# Altium schematic symbol library NXPSemi.SchLib: 6 symbols
Pins are listed as number, name and electrical type; pins without a type are passive.

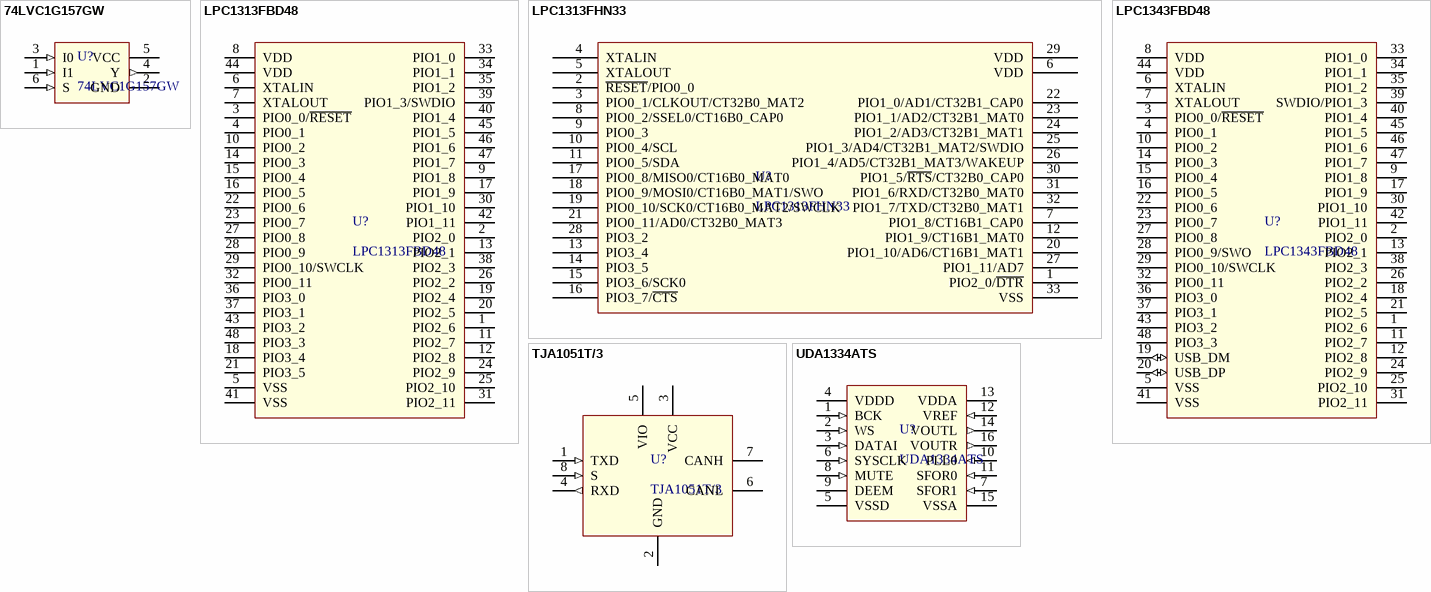
[diagram p0: symbols 74LVC1G157GW to UDA1334ATS]

## 74LVC1G157GW
designator U?
footprint SOT363-6N (SOT363, 6-Leads, Body 2x1.3mm, Pitch 0.65mm, Lead Span 2.1mm, IPC Medium Density)
pins: 1 I1 (in), 2 GND (power), 3 I0 (in), 4 Y (out), 5 VCC (power), 6 S (in)

## LPC1313FBD48
designator U?
footprint SQFP50P900X900-48N (Shrink QFP, 48-Leads, Body 7x7mm, Pitch 0.5mm, IPC Medium Density)
pins: 1 PIO2_6, 2 PIO2_0, 3 PIO0_0/~{RESET}, 4 PIO0_1, 5 VSS, 6 XTALIN, 7 XTALOUT, 8 VDD, 9 PIO1_8, 10 PIO0_2, 11 PIO2_7, 12 PIO2_8, 13 PIO2_1, 14 PIO0_3, 15 PIO0_4, 16 PIO0_5, 17 PIO1_9, 18 PIO3_4, 19 PIO2_4, 20 PIO2_5, 21 PIO3_5, 22 PIO0_6, 23 PIO0_7, 24 PIO2_9, 25 PIO2_10, 26 PIO2_2, 27 PIO0_8, 28 PIO0_9, 29 PIO0_10/SWCLK, 30 PIO1_10, 31 PIO2_11, 32 PIO0_11, 33 PIO1_0, 34 PIO1_1, 35 PIO1_2, 36 PIO3_0, 37 PIO3_1, 38 PIO2_3, 39 PIO1_3/SWDIO, 40 PIO1_4, 41 VSS, 42 PIO1_11, 43 PIO3_2, 44 VDD, 45 PIO1_5, 46 PIO1_6, 47 PIO1_7, 48 PIO3_3

## LPC1313FHN33
designator U?
pins: 1 PIO2_0/~{DTR}, 2 ~{RESET}/PIO0_0, 3 PIO0_1/CLKOUT/CT32B0_MAT2, 4 XTALIN, 5 XTALOUT, 6 VDD, 7 PIO1_8/CT16B1_CAP0, 8 PIO0_2/SSEL0/CT16B0_CAP0, 9 PIO0_3, 10 PIO0_4/SCL, 11 PIO0_5/SDA, 12 PIO1_9/CT16B1_MAT0, 13 PIO3_4, 14 PIO3_5, 15 PIO3_6/SCK0, 16 PIO3_7/~{CTS}, 17 PIO0_8/MISO0/CT16B0_MAT0, 18 PIO0_9/MOSI0/CT16B0_MAT1/SWO, 19 PIO0_10/SCK0/CT16B0_MAT2/SWCLK, 20 PIO1_10/AD6/CT16B1_MAT1, 21 PIO0_11/AD0/CT32B0_MAT3, 22 PIO1_0/AD1/CT32B1_CAP0, 23 PIO1_1/AD2/CT32B1_MAT0, 24 PIO1_2/AD3/CT32B1_MAT1, 25 PIO1_3/AD4/CT32B1_MAT2/SWDIO, 26 PIO1_4/AD5/CT32B1_MAT3/WAKEUP, 27 PIO1_11/AD7, 28 PIO3_2, 29 VDD, 30 PIO1_5/~{RTS}/CT32B0_CAP0, 31 PIO1_6/RXD/CT32B0_MAT0, 32 PIO1_7/TXD/CT32B0_MAT1, 33 VSS

## LPC1343FBD48
designator U?
footprint SQFP50P900X900-48N (Shrink QFP, 48-Leads, Body 7x7mm, Pitch 0.5mm, IPC Medium Density)
pins: 1 PIO2_6, 2 PIO2_0, 3 PIO0_0/~{RESET}, 4 PIO0_1, 5 VSS, 6 XTALIN, 7 XTALOUT, 8 VDD, 9 PIO1_8, 10 PIO0_2, 11 PIO2_7, 12 PIO2_8, 13 PIO2_1, 14 PIO0_3, 15 PIO0_4, 16 PIO0_5, 17 PIO1_9, 18 PIO2_4, 19 USB_DM (io), 20 USB_DP (io), 21 PIO2_5, 22 PIO0_6, 23 PIO0_7, 24 PIO2_9, 25 PIO2_10, 26 PIO2_2, 27 PIO0_8, 28 PIO0_9/SWO, 29 PIO0_10/SWCLK, 30 PIO1_10, 31 PIO2_11, 32 PIO0_11, 33 PIO1_0, 34 PIO1_1, 35 PIO1_2, 36 PIO3_0, 37 PIO3_1, 38 PIO2_3, 39 SWDIO/PIO1_3, 40 PIO1_4, 41 VSS, 42 PIO1_11, 43 PIO3_2, 44 VDD, 45 PIO1_5, 46 PIO1_6, 47 PIO1_7, 48 PIO3_3

## TJA1051T/3
designator U?
Supplier Part Number 1: 568-8684-1-ND
footprint SO8 (Small Outline; 8 Leads; Body Width 3.9 mm; Pitch 1.27 mm)
pins: 1 TXD (in), 2 GND (power), 3 VCC (power), 4 RXD (out), 5 VIO (power), 6 CANL, 7 CANH, 8 S (in)

## UDA1334ATS
designator U?
pins: 1 BCK (in), 2 WS (in), 3 DATAI (in), 4 VDDD (power), 5 VSSD (power), 6 SYSCLK (in), 7 SFOR1 (in), 8 MUTE (in), 9 DEEM, 10 PLL0 (in), 11 SFOR0 (in), 12 VREF (in), 13 VDDA (power), 14 VOUTL (out), 15 VSSA (power), 16 VOUTR (out)